# Altium footprint library 2015-02-06_15-55-14.PcbLib: 10 footprints
Each footprint in its own frame and in the unit in brackets; x right, y up, seen from the top. Pads: shape width x height; smd on the part's side, far side on the other; paste and mask are expansions set on the pad; w line width, h text height; cw(c..) or ccw(c..) is an arc to the next point about the centre after c.
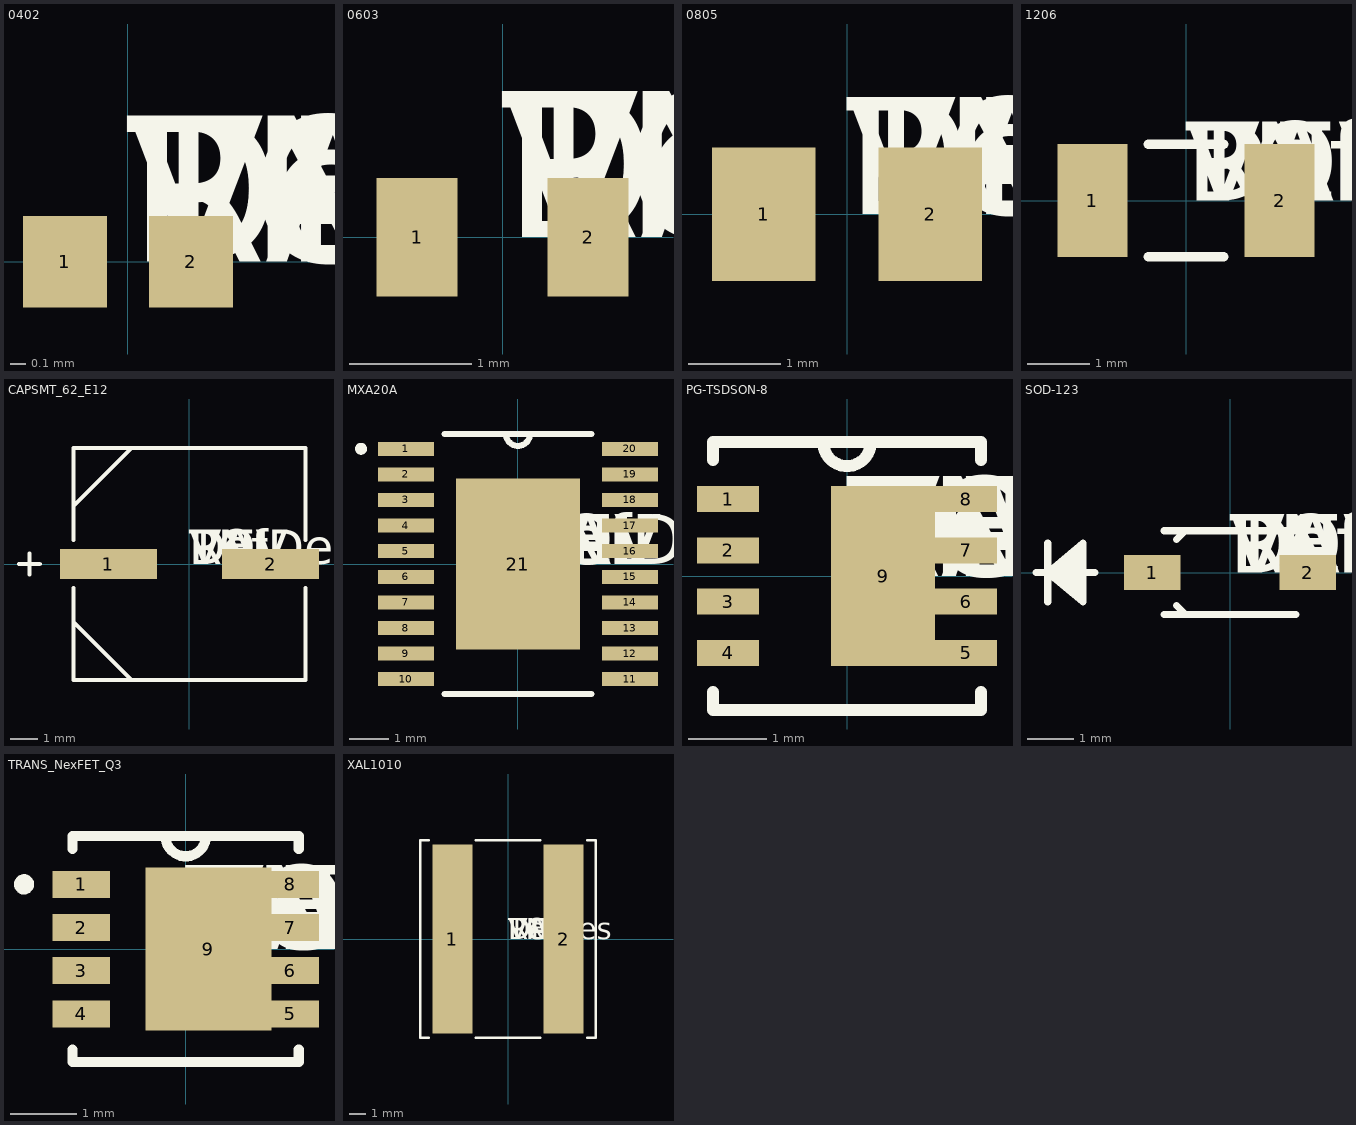
[diagram p0: the footprints below, top view; thin cyan lines are the x and y axes]

## 0402 [mil]
pads (2):
  rect 22x24 smd: 1(-16.5,0) 2(16.5,0)
Top Overlay:
  text "RefDes" at 0,0 h50
  text "DEV" at 0,0 h50
  text "PN" at 0,0 h50
  text "DEV" at 0,0 h50
  text "VAL" at 0,0 h50
  text "TOL" at 0,0 h50

## 0603 [mil]
pads (2):
  rect 26x38 smd: 1(-27.5,0) 2(27.5,0)
Top Overlay:
  text "RefDes" at 0,0 h50
  text "DEV" at 0,0 h50
  text "PN" at 0,0 h50
  text "DEV" at 0,0 h50
  text "VAL" at 0,0 h50
  text "TOL" at 0,0 h50

## 0805 [mil]
pads (2):
  rect 44x57 smd: 1(-35.5,0) 2(35.5,0)
Top Overlay:
  text "RefDes" at 0,0 h50
  text "DEV" at 0,0 h50
  text "PN" at 0,0 h50
  text "DEV" at 0,0 h50
  text "VAL" at 0,0 h50
  text "TOL" at 0,0 h50

## 1206 [mil]
pads (2):
  rect 44x71 smd: 1(-59,0) 2(59,0)
Top Overlay:
  lines w6: -23.9,-35.5 23.9,-35.5 ; -23.9,35.5 23.9,35.5
  text "RefDes" at 0,0 h50
  text "DEV" at 0,0 h50
  text "PN" at 0,0 h50
  text "DEV" at 0,0 h50
  text "VAL" at 0,0 h50
  text "TOL" at 0,0 h50

## CAPSMT_62_E12 [mil]
pads (2):
  rect 140x43 smd: 1(-117,0) 2(117,0)
Top Overlay:
  lines w6: -246,0 -216,0 ; -231,-15 -231,15 ; -167.5,-83.75 -83.75,-167.5 ; -167.5,-34.6 -167.5,-167.5 167.5,-167.5 167.5,-34.6 ; -167.5,34.6 -167.5,167.5 167.5,167.5 167.5,34.6 ; -167.5,83.75 -83.75,167.5
  text "RefDes" at 0,0 h50
  text "DEV" at 0,0 h50
  text "PN" at 0,0 h50
  text "DEV" at 0,0 h50
  text "VAL" at 0,0 h50
  text "TOL" at 0,0 h50

## MXA20A [mil]
pads (21):
  rect 56x14 smd: 1(-112,115.16) 2(-112,89.57) 3(-112,63.98) 4(-112,38.39) 5(-112,12.8) 6(-112,-12.8) 7(-112,-38.39) 8(-112,-63.98) 9(-112,-89.57) 10(-112,-115.16) 11(112,-115.16) 12(112,-89.57) 13(112,-63.98) 14(112,-38.39) 15(112,-12.8) 16(112,12.8) 17(112,38.39) 18(112,63.98) 19(112,89.57) 20(112,115.16)
  rect 124x171 smd: 21(0,0)
Top Overlay:
  circle w6: c-156.8,115.16 r3
  lines w6: -73.51,-130 73.51,-130 ; -73.51,130 73.51,130 ; -12,130 ccw(c0,130) 12,130
  text "RefDes" at 0,0 h50
  text "DEV" at 0,0 h50
  text "PN" at 0,0 h50
  text "DEV" at 0,0 h50
  text "VAL" at 0,0 h50
  text "TOL" at 0,0 h50

## PG-TSDSON-8 [mil]
pads (9):
  rect 31x13 smd paste-6.5: 1(-59.5,38.39) 2(-59.5,12.8) 3(-59.5,-12.8) 4(-59.5,-38.39) 5(59.5,-38.39) 6(59.5,-12.8) 7(59.5,12.8) 8(59.5,38.39)
  rect 52x90 smd paste-26 mask+1: 9(18,0)
Top Layer:
  region: -75,0
Top Overlay:
  lines w6: -67,-57.99 -67,-67 67,-67 67,-57.99 ; -67,57.99 -67,67 67,67 67,57.99 ; -12,67 ccw(c0,67) 12,67
  text "RefDes" at 0,0 h50
  text "DEV" at 0,0 h50
  text "PN" at 0,0 h50
  text "DEV" at 0,0 h50
  text "VAL" at 0,0 h50
  text "TOL" at 0,0 h50
Top Paste:
  region: -44,44.89 -75,44.89 -75,31.89 -44,31.89
  region: -44,19.3 -75,19.3 -75,6.3 -44,6.3
  region: -44,-6.3 -75,-6.3 -75,-19.3 -44,-19.3
  region: -44,-31.89 -75,-31.89 -75,-44.89 -44,-44.89
  region: 75,-31.89 44,-31.89 44,-44.89 75,-44.89
  region: 75,-6.3 44,-6.3 44,-19.3 75,-19.3
  region: 75,19.3 44,19.3 44,6.3 75,6.3
  region: 75,44.89 44,44.89 44,31.89 75,31.89
  region: -75,0
Top Solder:
  region: -75,0

## SOD-123 [mil]
pads (2):
  rect 48x30 smd: 1(-66,0) 2(66,0)
Top Overlay:
  lines w6: -165,0 -115,0 ; -155,-25 -155,25 ; -125,-20 -155,0 ; -125,-15 -155,0 ; -125,-10 -155,0 ; -125,-5 -155,0 ; -125,5 -155,0 ; -125,10 -155,0 ; -125,15 -155,0 ; -125,20 -155,0 ; -56,-35.5 56,-35.5 ; -56,35.5 56,35.5 ; -45.65,-28.1 -38.25,-35.5 ; -45.65,28.1 -38.25,35.5 ; -155,0 -125,25 -125,-25 -155,0
  text "RefDes" at 0,0 h50
  text "DEV" at 0,0 h50
  text "PN" at 0,0 h50
  text "DEV" at 0,0 h50
  text "VAL" at 0,0 h50
  text "TOL" at 0,0 h50

## TRANS_NexFET_Q3 [mil]
pads (9):
  rect 34x16 smd: 1(-62,38.39) 2(-62,12.8) 3(-62,-12.8) 4(-62,-38.39) 5(62,-38.39) 6(62,-12.8) 7(62,12.8) 8(62,38.39)
  rect 74.8x96.46 smd: 9(13.46,0)
Top Layer:
  region: 67,0
Top Overlay:
  circle w6: c-95.8,38.39 r3
  lines w6: -67,-59.49 -67,-67 67,-67 67,-59.49 ; -67,59.49 -67,67 67,67 67,59.49 ; -12,67 ccw(c0,67) 12,67
  text "RefDes" at 0,0 h50
  text "DEV" at 0,0 h50
  text "PN" at 0,0 h50
  text "DEV" at 0,0 h50
  text "VAL" at 0,0 h50
  text "TOL" at 0,0 h50
Top Paste:
  region: 67,0
Top Solder:
  region: 67,0

## XAL1010 [mil]
pads (2):
  rect 94x445 smd: 1(-131,0) 2(131,0)
Top Overlay:
  lines w6: -186.46,-232.5 -207,-232.5 -207,232.5 -186.46,232.5 ; -75.54,-232.5 75.54,-232.5 ; -75.54,232.5 75.54,232.5 ; 186.46,-232.5 207,-232.5 207,232.5 186.46,232.5
  text "RefDes" at 0,0 h50
  text "DEV" at 0,0 h50
  text "PN" at 0,0 h50
  text "DEV" at 0,0 h50
  text "VAL" at 0,0 h50
  text "TOL" at 0,0 h50